# EAGLE library part BCM857 (library transistor-pnp)
PNP Transistor - Dual Matched
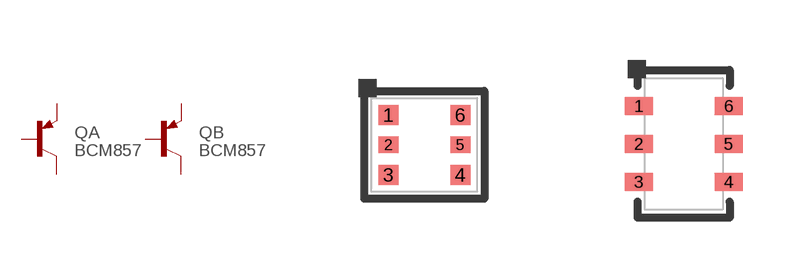
[diagram p1: symbol with the pads of SOT363; footprints SOT363, SOT457]

Designator prefix Q; gates A=PNP B=PNP

## BCM857BS  [SOT363]
1  A:E  pas
2  A:B  pas
3  B:C  pas
4  B:E  pas
5  B:B  pas
6  A:C  pas

## BCM857DS  [SOT457]
Pads as for SOT363

## BCM857BV  [SOT666]
Pads as for SOT363

## Footprint SOT363 (pad centres in mm)
SOT363 (SC-88)
smd 0.5 x 0.5: 1 -0.9,0.75; 3 -0.9,-0.75; 4 0.9,-0.75; 6 0.9,0.75
smd 0.5 x 0.4: 2 -0.9,0; 5 0.9,0

## Footprint SOT457 (pad centres in mm)
SOT457 (SC-74)
smd 0.7 x 0.45: 1 -1.125,0.95; 2 -1.125,0; 3 -1.125,-0.95; 4 1.125,-0.95; 5 1.125,0; 6 1.125,0.95

## Footprint SOT666 (pad centres in mm)
SOT666
smd 0.45 x 0.325: 1 -0.85,0.537; 3 -0.85,-0.537; 4 0.85,-0.537; 6 0.85,0.537
smd 0.6 x 0.25: 2 -0.925,0; 5 0.925,0